# Altium schematic symbol library ESP32.SchLib: 19 symbols (part 2 of 2)
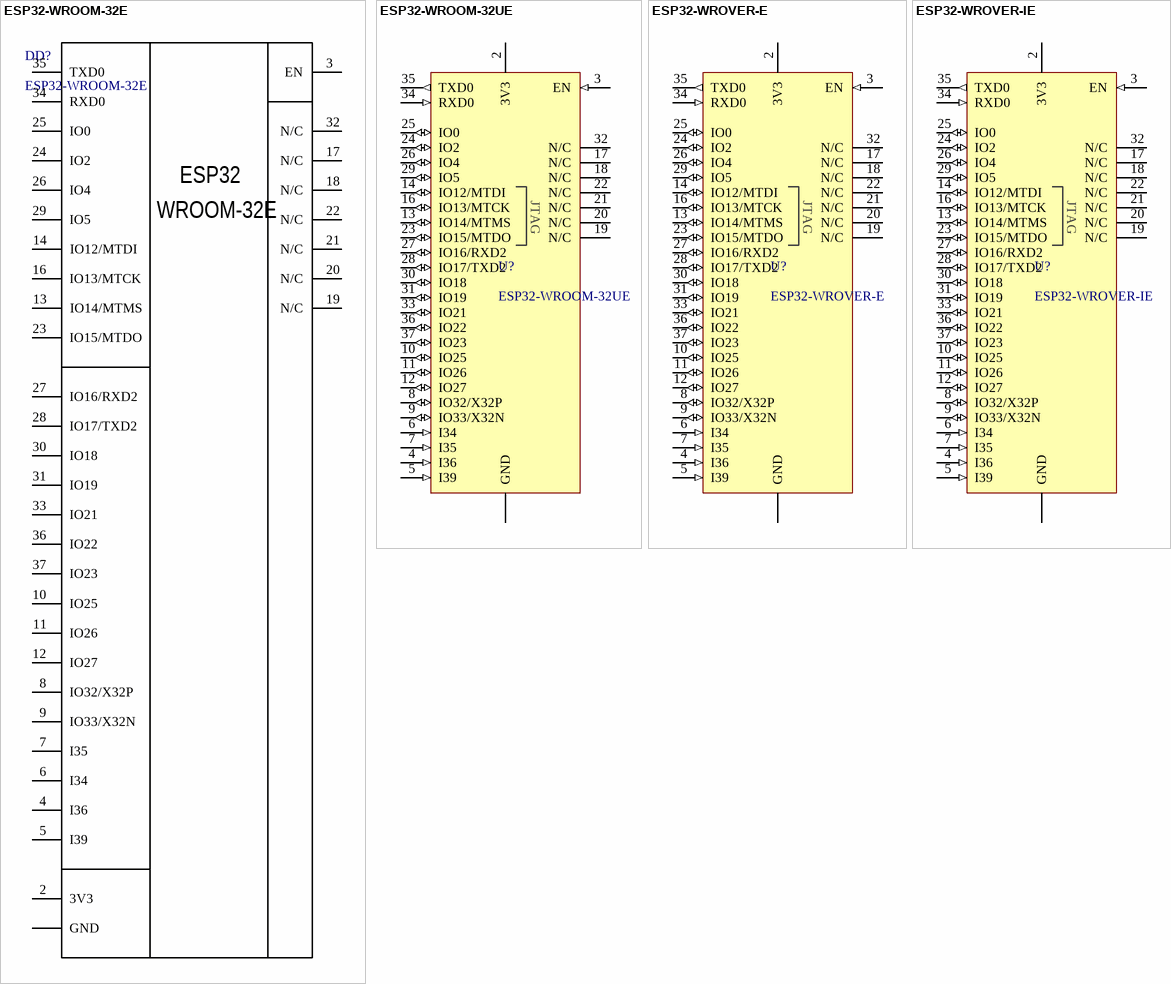
[diagram p3: symbols ESP32-WROOM-32E to ESP32-WROVER-IE]

## ESP32-WROVER-IE
designator U?
IPEX Antenna - 8 MB PSRAM - 4,8,16 MB Flash - WiFi - BT - MCU; Manufacturer_Name: Espressif Systems; ComponentLink1Description: Datasheet; ComponentLink1URL: https://www.espressif.com/sites/default/files/documentation/esp32-wrover-e_esp32-wrover-ie_datasheet_en.pdf; ComponentLink2Description: SoC Datasheet; ComponentLink2URL: https://www.espressif.com/sites/default/files/documentation/esp32_datasheet_en.pdf; ComponentLink3Description: Devkit; ComponentLink3URL: https://www.espressif.com/en/products/devkits/esp32-devkitc
footprint ESP32-WROVER-IE (IPEX ANTENNA - 38 PIN)
pins: 1 GND (power) "Ground", 2 3V3 (power) "Power Supply", 3 EN (in) "Chip Enable", 4 I36 (in) "GPIO36, ADC1_CH0, RTC_GPIO0, SENSOR_VP", 5 I39 (in) "GPIO39, ADC1_CH3, RTC_GPIO3, SENSOR_VN", 6 I34 (in) "GPIO34, ADC1_CH6, RTC_GPIO4", 7 I35 (in) "GPIO35, ADC1_CH7, RTC_GPIO5", 8 IO32/X32P (io) "GPIO32, XTAL_32K_P (32.768 kHz crystal oscillator input), ADC1_CH4, TOUCH9, RTC_GPIO9", 9 IO33/X32N (io) "GPIO33, XTAL_32K_N (32.768 kHz crystal oscillator output), ADC1_CH5, TOUCH8, RTC_GPIO8", 10 IO25 (io) "GPIO25, DAC_1, ADC2_CH8, RTC_GPIO6, EMAC_RXD0", 11 IO26 (io) "GPIO26, DAC_2, ADC2_CH9, RTC_GPIO7, EMAC_RXD1", 12 IO27 (io) "GPIO27, ADC2_CH7, TOUCH7, RTC_GPIO17, EMAC_RX_DV", 13 IO14/MTMS (io) "GPIO14, ADC2_CH6, TOUCH6, RTC_GPIO16, MTMS, HSPICLK, HS2_CLK, SD_CLK, EMAC_TXD2", 14 IO12/MTDI (io) "GPIO12, ADC2_CH5, TOUCH5, RTC_GPIO15, MTDI, HSPIQ, HS2_DATA2, SD_DATA2, EMAC_TXD3", 15 GND (power) "Ground", 16 IO13/MTCK (io) "GPIO13, ADC2_CH4, TOUCH4, RTC_GPIO14, MTCK, HSPID, HS2_DATA3, SD_DATA3, EMAC_RX_ER", 17 N/C "Internal Flash IO", 18 N/C "Internal Flash IO", 19 N/C "Internal Flash IO", 20 N/C "Internal Flash IO", 21 N/C "Internal Flash IO", 22 N/C "Internal Flash IO", 23 IO15/MTDO (io) "GPIO15, ADC2_CH3, TOUCH3, MTDO, HSPICS0, RTC_GPIO13, HS2_CMD, SD_CMD, EMAC_RXD3", 24 IO2 (io) "GPIO2, ADC2_CH2, TOUCH2, RTC_GPIO12, HSPIWP, HS2_DATA0, SD_DATA0", 25 IO0 (io) "GPIO0, ADC2_CH1, TOUCH1, RTC_GPIO11, CLK_OUT1, EMAC_TX_CLK", 26 IO4 (io) "GPIO4, ADC2_CH0, TOUCH0, RTC_GPIO10, HSPIHD, HS2_DATA1, SD_DATA1, EMAC_TX_ER", 27 IO16/RXD2 (io) "GPIO16, HS1_DATA4, U2RXD, EMAC_CLK_OUT", 28 IO17/TXD2 (io) "GPIO17, HS1_DATA5, U2TXD, EMAC_CLK_OUT_180", 29 IO5 (io) "GPIO5, VSPICS0, HS1_DATA6, EMAC_RX_CLK", 30 IO18 (io) "GPIO18, VSPICLK, HS1_DATA7", 31 IO19 (io) "GPIO19, VSPIQ, U0CTS, EMAC_TXD0", 32 N/C "Non Connected", 33 IO21 (io) "GPIO21, VSPIHD, EMAC_TX_EN", 34 RXD0 (in) "GPIO3, U0RXD, CLK_OUT2", 35 TXD0 (out) "GPIO1, U0TXD, CLK_OUT3, EMAC_RXD2", 36 IO22 (io) "GPIO22, VSPIWP, U0RTS, EMAC_TXD1", 37 IO23 (io) "GPIO23, VSPID, HS1_STROBE", 38 GND (power) "Ground", 39 GND (power) "Ground"
text: JTAG